# Altium footprint library IRF9540NSTRLPBF.PcbLib: 2 footprints
Each footprint in its own frame and in the unit in brackets; x right, y up, seen from the top. Pads: shape width x height; smd on the part's side, far side on the other; paste and mask are expansions set on the pad; w line width, h text height; cw(c..) or ccw(c..) is an arc to the next point about the centre after c.
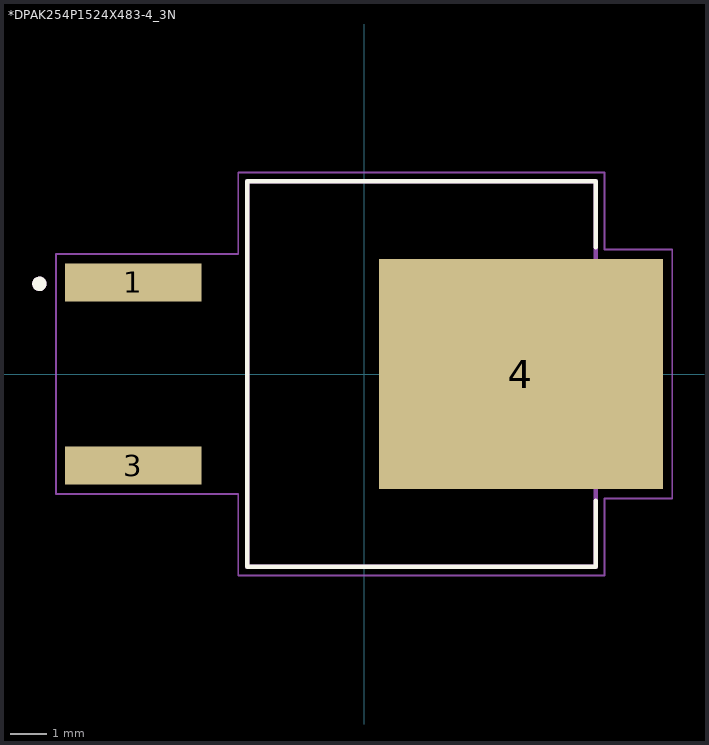
[diagram p0: the footprints below, top view; thin cyan lines are the x and y axes]

## *DPAK254P1524X483-4_3N [mm]
pads (3):
  rect 3.78x1.06 smd: 1(-6.4,2.54) 3(-6.4,-2.54)
  rect 7.88x6.39 smd: 4(4.35,0)
Top Overlay:
  circle w0.2: c-9,2.5 r0.1
  lines w0.127: 6.42,-3.52 6.42,-5.34 -3.24,-5.34 -3.24,5.34 6.42,5.34 6.42,3.52
Top Paste:
  region: 6.645,-0.645 7.965,-0.645 7.965,-2.545 6.645,-2.545
  region: 4.675,-0.645 5.995,-0.645 5.995,-2.545 4.675,-2.545
  region: 2.705,-0.645 4.025,-0.645 4.025,-2.545 2.705,-2.545
  region: 0.735,-0.645 2.055,-0.645 2.055,-2.545 0.735,-2.545
  region: 0.735,2.545 2.055,2.545 2.055,0.645 0.735,0.645
  region: 6.645,2.545 7.965,2.545 7.965,0.645 6.645,0.645
  region: 4.675,2.545 5.995,2.545 5.995,0.645 4.675,0.645
  region: 2.705,2.545 4.025,2.545 4.025,0.645 2.705,0.645
Mechanical 4:
  circle w0.2: c-9,2.5 r0.1
  circle w0.2: c-9,2.5 r0.1
  lines w0.127: -3.24,-5.34 -3.24,5.34 ; -3.24,-5.34 6.42,-5.34 ; -3.24,-5.34 -3.24,5.34 ; -3.24,-5.34 6.42,-5.34 ; -3.24,5.34 6.42,5.34 ; -3.24,5.34 6.42,5.34 ; 6.42,-5.34 6.42,5.34 ; 6.42,-5.34 6.42,5.34
Mechanical 16:
  lines w0.05: -8.544,-3.326 -8.544,3.326 -3.49,3.326 -3.49,5.59 6.67,5.59 6.67,3.45 8.544,3.45 8.544,-3.45 6.67,-3.45 6.67,-5.59 -3.49,-5.59 -3.49,-3.326 -8.544,-3.326

## PCBComponent_1 [mm]